# EAGLE library part USB4085-GF-A (library 2022-04-24_08-50-11_Library)
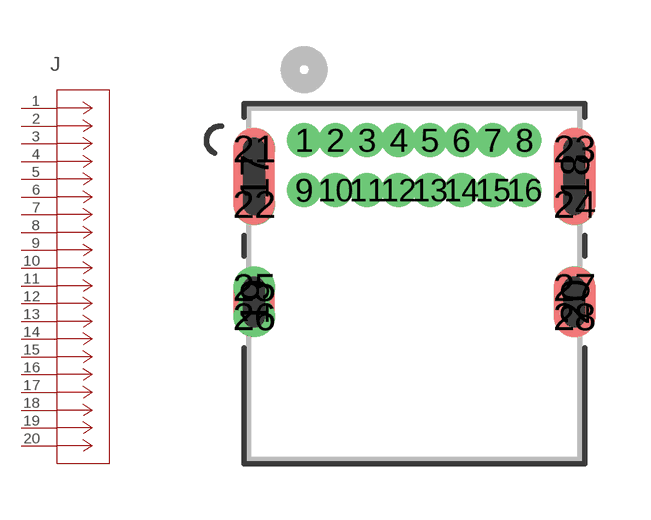
[diagram p0: symbol with the pads of CONN16_USB4085-GF-A_GCT; footprint CONN16_USB4085-GF-A_GCT]

Designator prefix J

## USB4085-GF-ACONN16_USB4085-GF-A_GCT (Copyright: Copyright (C) 2022 Ultra Librarian. All rights reserved.; Manufacturer_Part_Number: USB4085-GF-A; Mfr_Name: Global Connector Technology)  [CONN16_USB4085-GF-A_GCT]
1  1  pas
2  2  pas
3  3  pas
4  4  pas
5  5  pas
6  6  pas
7  7  pas
8  8  pas
9  9  pas
10  10  pas
11  11  pas
12  12  pas
13  13  pas
14  14  pas
15  15  pas
16  16  pas
17  17  pas
18  18  pas
19  19  pas
20  20  pas

## Footprint CONN16_USB4085-GF-A_GCT (pad centres in mm)
drill 0.406 pad 0.66 round: 1 0,0; 2 0.85,0; 3 1.7,0; 4 2.55,0; 5 3.4,0; 6 4.25,0; 7 5.1,0; 8 5.95,0; 9 0,-1.35; 10 0.85,-1.35; 11 1.7,-1.35; 12 2.55,-1.35; 13 3.4,-1.35; 14 4.25,-1.35; 15 5.1,-1.35; 16 5.95,-1.35
smd 1.118 x 2.616: 17 -1.35,-0.98; 18 7.3,-0.98
smd 1.118 x 1.905: 19 -1.35,-4.365; 20 7.3,-4.365
drill 0.61 pad 0.61 round: 21 -1.35,-0.231; 22 -1.35,-1.729; 23 7.3,-0.231; 24 7.3,-1.729; 25 -1.35,-3.971; 26 -1.35,-4.759; 27 7.3,-3.971; 28 7.3,-4.759